# Altium schematic symbol library OV2640.SchLib: 1 symbol
Pins are listed as number, name and electrical type; pins without a type are passive.

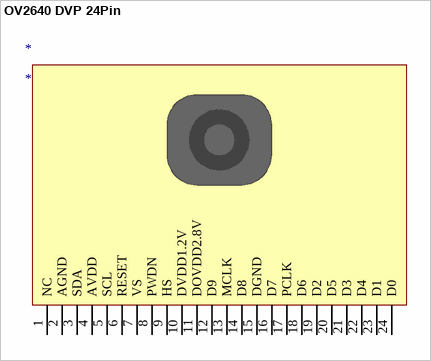
[diagram p0: symbol OV2640 DVP 24Pin]

## OV2640 DVP 24Pin
designator *
pins: 1 NC, 2 AGND, 3 SDA, 4 AVDD, 5 SCL, 6 RESET, 7 VS, 8 PWDN, 9 HS, 10 DVDD1.2V, 11 DOVDD2.8V, 12 D9, 13 MCLK, 14 D8, 15 DGND, 16 D7, 17 PCLK, 18 D6, 19 D2, 20 D5, 21 D3, 22 D4, 23 D1, 24 D0